# Altium schematic symbol library Other devices.SchLib: 5 symbols
Pins are listed as number, name and electrical type; pins without a type are passive.

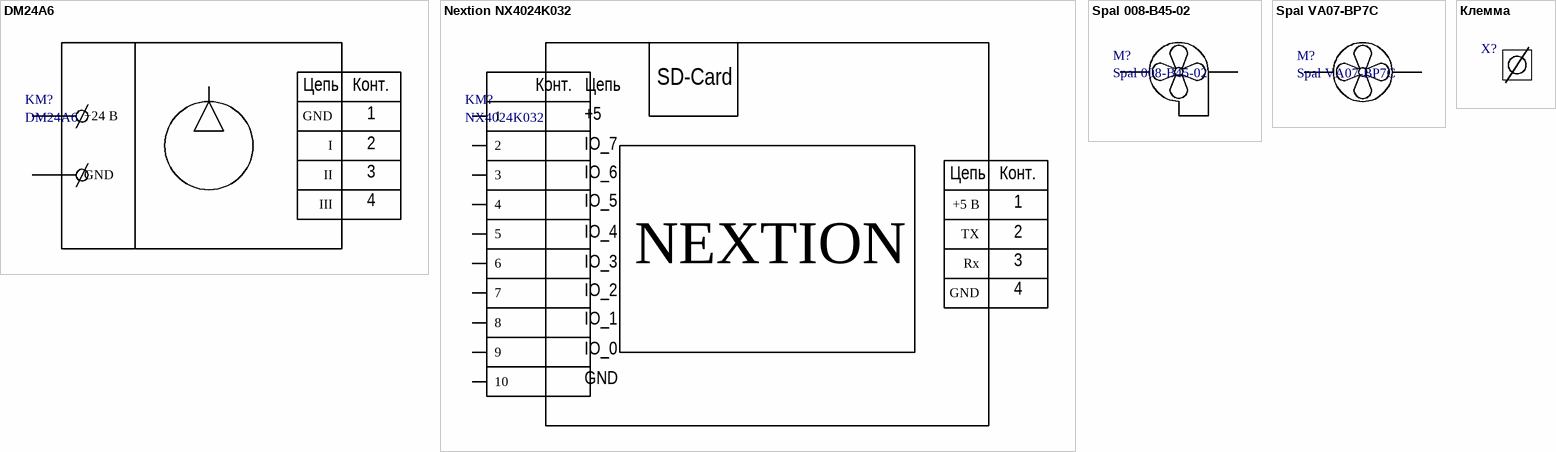
[diagram p0: symbols DM24A6 to Клемма]

## DM24A6
designator KM?
DM24A6 dc 24v air compressor, speed 1800-6000; Name: Спиральный компрессор; HelpURL: https://www.ecvv.com/product/4596610.html; Model: DM24A6; Value: DM24A6
pins: 1 +24 B, 2 GND, 3 GND, 4 I, 5 II, 6 III
text: Цепь; Конт.

## Nextion NX4024K032
designator KM?, comment NX4024K032
Nextion NX4024K032; Name: Сенсорный экран; HelpURL: https://nextion.tech/datasheets/nx4024k032/; Model: NX4024K032; Value: NX4024K032
pins: 1 +5 В, 1, 2 TX, 2, 3 Rx, 3, 4 GND, 4, 5, 6, 7, 8, 9, 10
text: Конт.; Цепь; SD-Card; +5; IO_7; IO_6; IO_5; IO_4; IO_3; NEXTION; IO_2; IO_1; IO_0

## Spal 008-B45-02
designator M?
Name: Вентилятор приточный; HelpURL: https://thermo-top.ru/shop/1086/desc/spal-008-b45-02; Model: Spal 008-B45-02; Value: Spal 008-B45-02
pins: 1 VDD, 2 Q

## Spal VA07-BP7C
designator M?
Name: Вентилятор приточный; HelpURL: https://autoclimat.com/autoclimat-574; Model: Spal VA07-BP7C; Value: Spal VA07-BP7C
pins: 1 VDD, 2 Q

## Клемма
designator X?
Name: Клемма
pins: 1 VDD, 2 Q